# Altium footprint library MDV6-TEMP.PcbLib: 12 footprints
Each footprint in its own frame and in the unit in brackets; x right, y up, seen from the top. Pads: shape width x height; smd on the part's side, far side on the other; paste and mask are expansions set on the pad; w line width, h text height; cw(c..) or ccw(c..) is an arc to the next point about the centre after c.
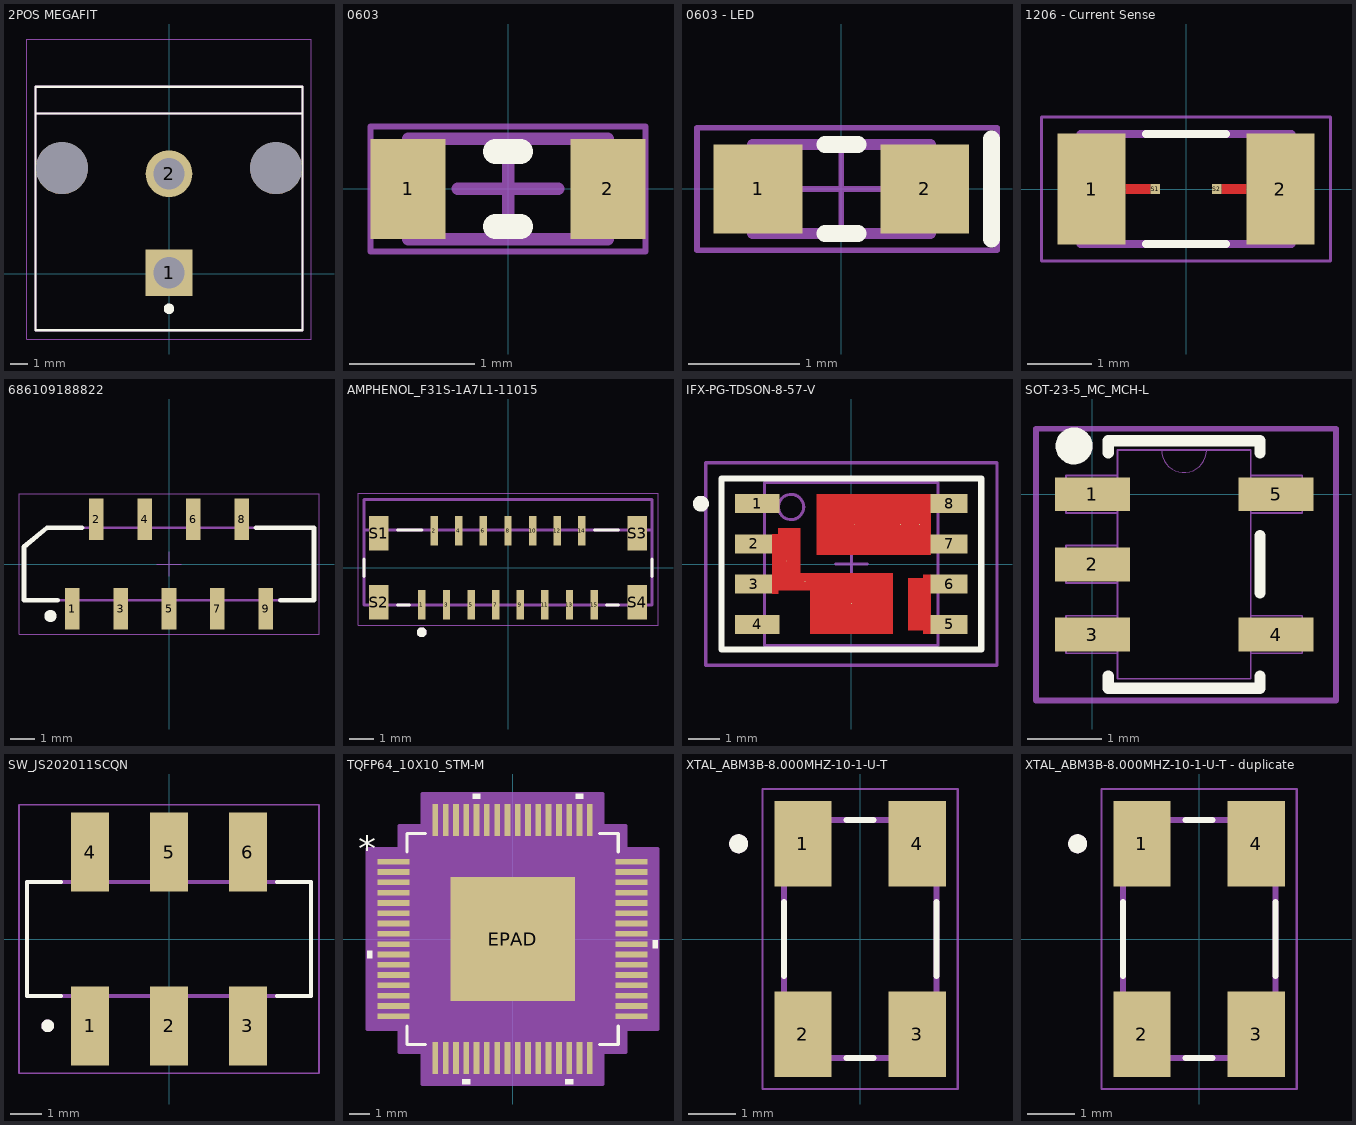
[diagram p0: the footprints below, top view; thin cyan lines are the x and y axes]

## 2POS MEGAFIT [mm] "2POS MOLEX MEGAFIT"
pads (4):
  rect 2.7x2.7 hole 1.8: 1(0,0.071)
  round 2.7 hole 1.8: 2(0,5.771)
  round 3 hole 3 unplated: ""(-6.17,6.096) ""(6.17,6.096)
Top Overlay:
  circle w0.3: c0,-2.004 r0.15
  lines w0.127: -7.695,9.241 7.695,9.241 ; -7.695,9.241 -7.695,-3.239 7.695,-3.239 7.695,9.241 ; -7.695,9.241 -7.695,10.791 7.695,10.791 7.695,9.241
Mechanical 13:
  lines w0.127: -7.695,9.241 7.695,9.241 ; -7.695,9.241 -7.695,-3.239 7.695,-3.239 7.695,9.241 ; -7.695,9.241 -7.695,10.791 7.695,10.791 7.695,9.241
Mechanical 15:
  lines w0.05: -8.2,-3.744 8.2,-3.744 8.2,13.536 -8.2,13.536 -8.2,-3.744
3D body "76829-0002--3DModel-STEP-361473.STEP": height 15.15, standoff -3.43, extent -7.696,-3.239 7.696,10.795

## 0603 [mm] "Chip Resistor, 2-Leads, Body 1.60x0.80mm, IPC High Density"
height 0.6
pads (2):
  rect 0.6x0.8 smd mask+0.1: 1(-0.8,0) 2(0.8,0)
Top Overlay:
  lines w0.2: -0.1,-0.3 0.1,-0.3 ; -0.1,0.3 0.1,0.3
Mechanical 13:
  lines w0.1: -0.8,-0.4 -0.8,0.4 0.8,0.4 0.8,-0.4 -0.8,-0.4
Mechanical 15:
  lines w0.05: -1.1,-0.5 -1.1,0.5 1.1,0.5 1.1,-0.5 -1.1,-0.5
  lines w0.1: -0.4,0 0.4,0 ; 0,-0.4 0,0.4
3D body: height 0.6, standoff 0, extent -0.6,-0.4 0.6,0.4
3D body: height 0.6, standoff 0, extent -0.8,-0.4 -0.6,0.4
3D body: height 0.6, standoff 0, extent 0.6,-0.4 0.8,0.4

## 0603 - LED [mm]
pads (2):
  rect 0.8x0.8 smd: 1(-0.75,0) 2(0.75,0)
Top Overlay:
  lines w0.152: -0.15,-0.4 0.15,-0.4 ; -0.15,0.4 0.15,0.4 ; 1.35,-0.45 1.35,0.45
Mechanical 13:
  lines w0.1: -0.8,-0.4 0.8,-0.4 0.8,0.4 -0.8,0.4 -0.8,-0.4
Mechanical 15:
  lines w0.05: -0.4,0 0.4,0 ; 0,-0.4 0,0.4 ; -1.3,-0.55 -1.3,0.55 1.4,0.55 1.4,-0.55 -1.3,-0.55
3D body "0603 - LED.STEP": height 0.65, standoff 0, extent -0.8,-0.4 0.8,0.4

## 1206 - Current Sense [mm]
pads (4):
  rect 1.05x1.72 smd: 1(-1.46,0) 2(1.46,0)
  rect 0.152x0.152 smd mask+0.102: S1(-0.476,0) S2(0.476,0)
Top Layer:
  rectangle: -0.935,-0.076 -0.552,0.076
  region: 0.935,0.076 0.552,0.076 0.552,-0.076 0.935,-0.076
Top Overlay:
  lines w0.127: -0.62,-0.85 0.62,-0.85 ; -0.62,0.85 0.62,0.85
Mechanical 13:
  lines w0.127: -1.63,-0.85 -1.63,0.85 1.63,0.85 1.63,-0.85 -1.63,-0.85
Mechanical 15:
  lines w0.05: -2.235,-1.112 -2.235,1.112 2.235,1.112 2.235,-1.112 -2.235,-1.112
3D body "1206.STEP": height 1.61, standoff 0.01, extent -1.6,-0.8 1.6,0.8

## 686109188822 [mm] "LIF Connectors, Vertical Type A,  pitch 1mm, 9p"
height 5.1
pads (9):
  rect 0.6x1.7 smd: 1(-4,-1.85) 2(-3,1.85) 3(-2,-1.85) 4(-1,1.85) 5(0,-1.85) 6(1,1.85) 7(2,-1.85) 8(3,1.85) 9(4,-1.85)
Top Overlay:
  circle w0.25: c-4.9,-2.15 r0.125
  lines w0.2: -4.6,-1.5 -6,-1.5 -6,0.7 -5.047,1.5 -3.6,1.5 ; 3.6,1.5 6,1.5 6,-1.5 4.6,-1.5
Top 3D Body:
  lines w0.1: -4.175,-1.5 -4.175,-2.2 -3.825,-2.2 -3.825,-1.5 ; -3.175,1.5 -3.175,2.2 -2.825,2.2 -2.825,1.5 ; -2.175,-1.5 -2.175,-2.2 -1.825,-2.2 -1.825,-1.5 ; -1.175,1.5 -1.175,2.2 -0.825,2.2 -0.825,1.5 ; -0.175,-1.5 -0.175,-2.2 0.175,-2.2 0.175,-1.5 ; 0.825,1.5 0.825,2.2 1.175,2.2 1.175,1.5 ; 1.825,-1.5 1.825,-2.2 2.175,-2.2 2.175,-1.5 ; 2.825,1.5 2.825,2.2 3.175,2.2 3.175,1.5 ; 3.825,-1.5 3.825,-2.2 4.175,-2.2 4.175,-1.5 ; -6,-1.5 6,-1.5 6,1.5 -5.047,1.5 -6,0.7 -6,-1.5
Top Courtyard:
  lines w0.05: -0.5,0 0.5,0 ; 0,-0.5 0,0.5 ; -6.2,-2.9 -6.2,2.9 6.2,2.9 6.2,-2.9 -6.2,-2.9
Top Designator:
  text ".Designator" at -5.974,3.691 h1.5
Top Component Outline:
  lines w0.1: -4.175,-1.5 -4.175,-2.2 -3.825,-2.2 -3.825,-1.5 ; -3.175,1.5 -3.175,2.2 -2.825,2.2 -2.825,1.5 ; -2.175,-1.5 -2.175,-2.2 -1.825,-2.2 -1.825,-1.5 ; -1.175,1.5 -1.175,2.2 -0.825,2.2 -0.825,1.5 ; -0.175,-1.5 -0.175,-2.2 0.175,-2.2 0.175,-1.5 ; 0.825,1.5 0.825,2.2 1.175,2.2 1.175,1.5 ; 1.825,-1.5 1.825,-2.2 2.175,-2.2 2.175,-1.5 ; 2.825,1.5 2.825,2.2 3.175,2.2 3.175,1.5 ; 3.825,-1.5 3.825,-2.2 4.175,-2.2 4.175,-1.5 ; -6,-1.5 -6,0.7 -5.047,1.5 6,1.5 6,-1.5 -6,-1.5
3D body "686109188822.stp": height 5.21, standoff 0.01, extent -6,-2.2 6,2.2

## AMPHENOL_F31S-1A7L1-11015 [mm]
height 5.8
pads (19):
  rect 0.3x1.2 smd: 1(-3.5,-1.5) 2(-3,1.5) 3(-2.5,-1.5) 4(-2,1.5) 5(-1.5,-1.5) 6(-1,1.5) 7(-0.5,-1.5) 8(0,1.5) 9(0.5,-1.5) 10(1,1.5) 11(1.5,-1.5) 12(2,1.5) 13(2.5,-1.5) 14(3,1.5) 15(3.5,-1.5)
  rect 0.8x1.4 smd: S1(-5.25,1.4) S2(-5.25,-1.4) S3(5.25,1.4) S4(5.25,-1.4)
Top Overlay:
  circle w0.2: c-3.51,-2.63 r0.1
  lines w0.127: -5.85,-0.35 -5.85,0.35 ; -4.5,-1.525 -4,-1.525 ; -4.5,1.525 -3.5,1.525 ; 3.53,1.525 4.5,1.525 ; 4,-1.525 4.5,-1.525 ; 5.85,-0.35 5.85,0.35
Mechanical 13:
  circle w0.2: c-3.51,-2.63 r0.1
  lines w0.127: -5.85,1.525 -5.85,2.775 5.85,2.775 5.85,1.525 ; -5.85,1.525 5.85,1.525 ; -5.85,1.525 -5.85,-1.525 5.85,-1.525 5.85,1.525
Mechanical 15:
  lines w0.05: -6.1,-2.35 -6.1,3.025 6.1,3.025 6.1,-2.35 -6.1,-2.35
3D body "step_temp.STEP": height 5.81, standoff 0, extent -5.85,-3.203 5.85,1.778

## IFX-PG-TDSON-8-57-V [mm] "TDSON 8, 1.27mm pitch; 8 pin, 5.48 mm L X 5.15 mm W X 1 mm H body"
height 1
pads (15):
  rect 1.4x0.6 smd paste-0.3 mask+0: 1(-2.97,1.905) 4(-2.97,-1.905)
  rect 1.17x0.6 smd paste-0.3 mask+0: 2(-3.085,0.635) 3(-3.085,-0.635) 5(3.085,-1.905) 6(3.085,-0.635) 7(3.085,0.635) 8(3.085,1.905)
  round 0.025 smd: 2,3(-2.055,0.095) 2,3(-1.46,-0.555) 2,3(0,-1.245) 5,6(2.15,-1.27) 7,8(0.105,1.252) 7,8(1.55,1.252) 7,8(2.15,1.252)
Top Layer:
  region: -1.09,2.205 -1.09,0.3 1.3,0.3 1.3,2.205
  region: 1.3,2.205 1.3,0.3 1.8,0.3 1.8,2.205
  region: 2.5,-2.205 2.27,-2.205 2.27,-2.095 1.8,-2.095 1.8,-0.445 2.27,-0.445 2.27,-0.335 2.5,-0.335
  region: -1.651,-0.825 -1.27,-0.825 -1.27,-0.285 -1.651,-0.285
  region: -1.3,-2.205 -1.3,-0.285 1.3,-0.285 1.3,-2.205
  region: -2.5,-0.935 -2.31,-0.935 -2.31,-0.825 -1.61,-0.825 -1.61,1.125 -2.31,1.125 -2.31,0.935 -2.5,0.935
  region: 1.8,2.205 1.8,0.3 2.5,0.3 2.5,2.205
Top Overlay:
  circle w0.25: c-4.75,1.905 r0.125
  lines w0.2: -4.1,-2.7 4.1,-2.7 4.1,2.7 -4.1,2.7 -4.1,-2.7
Top Paste:
  region: 0.115,-1.815 0.865,-1.815 0.865,-0.665 0.115,-0.665
  region: -2.26,-0.635 -2.26,0.935 -1.66,0.935 -1.66,-0.635
  region: -0.885,-1.815 -0.135,-1.815 -0.135,-0.665 -0.885,-0.665
  region: 2.47,2.155 2.47,1.655 3.62,1.655 3.62,2.155
  region: 2.47,0.885 2.47,0.385 3.62,0.385 3.62,0.885
  region: 2.47,-1.655 2.47,-2.155 3.62,-2.155 3.62,-1.655
  region: 2.47,-0.385 2.47,-0.885 3.62,-0.885 3.62,-0.385
  region: -3.62,-0.385 -3.62,-0.885 -2.47,-0.885 -2.47,-0.385
  region: -3.62,-1.655 -3.62,-2.155 -2.47,-2.155 -2.47,-1.655
  region: -3.62,0.885 -3.62,0.385 -2.47,0.385 -2.47,0.885
  region: -3.62,2.155 -3.62,1.655 -2.47,1.655 -2.47,2.155
  region: 2.27,-1.605 1.85,-1.605 1.85,-0.935 2.27,-0.935
  region: -0.03,0.72 -0.03,1.77 -0.78,1.77 -0.78,0.72
  region: 0.97,0.72 0.97,1.77 0.22,1.77 0.22,0.72
  region: 2.25,0.81 2.25,1.68 1.85,1.68 1.85,0.81
Top Courtyard:
  text ".DESIGNATOR" at 0,0 h1.2
Mechanical 13:
  circle w0.1: c-1.905,1.8 r0.4
  lines w0.1: -2.74,-2.575 2.74,-2.575 2.74,2.575 -2.74,2.575 -2.74,-2.575
Mechanical 15:
  lines w0.1: -0.5,0 0.5,0 ; 0,-0.5 0,0.5 ; -4.6,-3.2 4.6,-3.2 4.6,3.2 -4.6,3.2 -4.6,-3.2
3D body "PG-TDSON-8-57_Z8B00191012_V02_3D.stp": height 1.01, standoff 0, extent -3.22,-2.705 3.22,2.705

## SOT-23-5_MC_MCH-L [mil]
pads (5):
  rect 40x18 smd: 1(0,0) 2(0,-37.4) 3(0,-74.8) 4(98,-74.8) 5(98,0)
Top Overlay:
  circle w9.84: c-9.72,25.77 r4.92
  lines w6: 8.5,-96.9 8.5,-103.4 89.5,-103.4 89.5,-96.9 ; 8.5,22.1 8.5,28.6 89.5,28.6 89.5,22.1 ; 89.5,-52.7 89.5,-22.1
Mechanical 13:
  lines w0: 37,23.6 ccw(c49,23.6) 61,23.6
  lines w1: -14,-84.8 13.5,-84.8 13.5,-64.8 -14,-64.8 -14,-84.8 ; -14,-47.4 13.5,-47.4 13.5,-27.4 -14,-27.4 -14,-47.4 ; -14,-10 13.5,-10 13.5,10 -14,10 -14,-10 ; 13.5,-98.4 13.5,23.6 84.5,23.6 84.5,-98.4 13.5,-98.4 ; 84.5,-84.8 112,-84.8 112,-64.8 84.5,-64.8 84.5,-84.8 ; 84.5,-10 112,-10 112,10 84.5,10 84.5,-10
Mechanical 15:
  lines w3: -30,-110 130,-110 130,35 -30,35 -30,-110
3D body "SOT-23-5_MC_MCH.step": height 57.09, standoff 0, extent -13.99,-98.39 111.99,23.58

## SW_JS202011SCQN [mm]
pads (6):
  rect 1.2x2.5 smd: 1(-2.5,-2.75) 2(0,-2.75) 3(2.5,-2.75) 4(-2.5,2.75) 5(0,2.75) 6(2.5,2.75)
Top Overlay:
  circle w0.2: c-3.84,-2.75 r0.1
  lines w0.127: -3.42,-1.8 -4.5,-1.8 -4.5,1.8 -3.42,1.8 ; 3.42,-1.8 4.5,-1.8 4.5,1.8 3.42,1.8
Mechanical 13:
  circle w0.2: c-3.84,-2.75 r0.1
  lines w0.127: -4.5,-1.8 -4.5,1.8 4.5,1.8 4.5,-1.8 -4.5,-1.8
Mechanical 15:
  lines w0.05: -4.75,-4.25 4.75,-4.25 4.75,4.25 -4.75,4.25 -4.75,-4.25
3D body "JS202011SCQN--3DModel-STEP-269445.STEP": height 5.51, standoff 0, extent -4.496,-3.747 4.496,3.747

## TQFP64_10X10_STM-M [mil]
pads (65):
  rect 61x11 smd paste+0 mask+0: 1(-227.5,147.64) 2(-227.5,127.95) 3(-227.5,108.27) 4(-227.5,88.58) 5(-227.5,68.9) 6(-227.5,49.21) 7(-227.5,29.53) 8(-227.5,9.84) 9(-227.5,-9.84) 10(-227.5,-29.53) 11(-227.5,-49.21) 12(-227.5,-68.9) 13(-227.5,-88.58) 14(-227.5,-108.27) 15(-227.5,-127.95) 16(-227.5,-147.64) 33(227.5,-147.64) 34(227.5,-127.95) 35(227.5,-108.27) 36(227.5,-88.58) 37(227.5,-68.9) 38(227.5,-49.21) 39(227.5,-29.53) 40(227.5,-9.84) 41(227.5,9.84) 42(227.5,29.53) 43(227.5,49.21) 44(227.5,68.9) 45(227.5,88.58) 46(227.5,108.27) 47(227.5,127.95) 48(227.5,147.64)
  rect 11x61 smd paste+0 mask+0: 17(-147.64,-227.5) 18(-127.95,-227.5) 19(-108.27,-227.5) 20(-88.58,-227.5) 21(-68.9,-227.5) 22(-49.21,-227.5) 23(-29.53,-227.5) 24(-9.84,-227.5) 25(9.84,-227.5) 26(29.53,-227.5) 27(49.21,-227.5) 28(68.9,-227.5) 29(88.58,-227.5) 30(108.27,-227.5) 31(127.95,-227.5) 32(147.64,-227.5) 49(147.64,227.5) 50(127.95,227.5) 51(108.27,227.5) 52(88.58,227.5) 53(68.9,227.5) 54(49.21,227.5) 55(29.53,227.5) 56(9.84,227.5) 57(-9.84,227.5) 58(-29.53,227.5) 59(-49.21,227.5) 60(-68.9,227.5) 61(-88.58,227.5) 62(-108.27,227.5) 63(-127.95,227.5) 64(-147.64,227.5)
  rect 238x238 smd paste-118.5 mask+0: EPAD(0,0)
Top Overlay:
  region: -61.4,268 -76.4,268 -76.4,278 -61.4,278
  region: 135.45,268 120.45,268 120.45,278 135.45,278
  region: 268,-2.34 278,-2.34 278,-17.34 268,-17.34
  region: 115.77,-268 100.77,-268 100.77,-278 115.77,-278
  region: -81.08,-268 -96.08,-268 -96.08,-278 -81.08,-278
  region: -268,-22.03 -278,-22.03 -278,-37.03 -268,-37.03
  lines w6: -202,-166.24 -202,-202 -166.24,-202 ; -202,166.24 -202,202 -166.24,202 ; 166.24,-202 202,-202 202,-166.24 ; 166.24,202 202,202 202,166.24
  text "*" at -295.5,147.48 h50
Top Paste:
  region: 115.06,-63.44 63.44,-63.44 63.44,-115.06 115.06,-115.06
  region: 115.06,-3.94 63.44,-3.94 63.44,-55.56 115.06,-55.56
  region: 115.06,55.56 63.44,55.56 63.44,3.94 115.06,3.94
  region: 115.06,115.06 63.44,115.06 63.44,63.44 115.06,63.44
  region: 55.56,-63.44 3.94,-63.44 3.94,-115.06 55.56,-115.06
  region: 55.56,-3.94 3.94,-3.94 3.94,-55.56 55.56,-55.56
  region: 55.56,55.56 3.94,55.56 3.94,3.94 55.56,3.94
  region: 55.56,115.06 3.94,115.06 3.94,63.44 55.56,63.44
  region: -3.94,-63.44 -55.56,-63.44 -55.56,-115.06 -3.94,-115.06
  region: -3.94,-3.94 -55.56,-3.94 -55.56,-55.56 -3.94,-55.56
  region: -3.94,55.56 -55.56,55.56 -55.56,3.94 -3.94,3.94
  region: -3.94,115.06 -55.56,115.06 -55.56,63.44 -3.94,63.44
  region: -63.44,-63.44 -115.06,-63.44 -115.06,-115.06 -63.44,-115.06
  region: -63.44,-3.94 -115.06,-3.94 -115.06,-55.56 -63.44,-55.56
  region: -63.44,55.56 -115.06,55.56 -115.06,3.94 -63.44,3.94
  region: -63.44,115.06 -115.06,115.06 -115.06,63.44 -63.44,63.44
Mechanical 13:
  drawing of 261 lines, arcs and shapes, not listed
  text "*" at -194.5,132.48 h50
Mechanical 15:
  region: -173.14,-217 -217,-217 -217,-173.14 -278,-173.14 -278,173.14 -217,173.14 -217,217 -173.14,217 -173.14,278 173.14,278 173.14,217 217,217 217,173.14 278,173.14 278,-173.14 217,-173.14 217,-217 173.14,-217 173.14,-278 -173.14,-278
  lines w6: -278,-173.14 -278,173.14 -217,173.14 -217,217 -173.14,217 -173.14,278 173.14,278 173.14,217 217,217 217,173.14 278,173.14 278,-173.14 217,-173.14 217,-217 173.14,-217 173.14,-278 -173.14,-278 -173.14,-217 -217,-217 -217,-173.14 -278,-173.14
3D body "TQFP64_10X10_STM.step": height 47.09, standoff 0, extent -235.98,-235.98 235.98,235.98

## XTAL_ABM3B-8.000MHZ-10-1-U-T [mm]
height 1.1
pads (4):
  rect 1.2x1.8 smd: 1(-1.2,2) 2(-1.2,-2) 3(1.2,-2) 4(1.2,2)
Top Overlay:
  circle w0.2: c-2.55,2 r0.1
  lines w0.127: -1.6,-0.78 -1.6,0.78 ; -0.28,-2.5 0.28,-2.5 ; -0.28,2.5 0.28,2.5 ; 1.6,-0.78 1.6,0.78
Mechanical 13:
  circle w0.2: c-2.55,2 r0.1
  lines w0.127: -1.6,-2.5 1.6,-2.5 1.6,2.5 -1.6,2.5 -1.6,-2.5
Mechanical 15:
  lines w0.05: -2.05,-3.15 2.05,-3.15 2.05,3.15 -2.05,3.15 -2.05,-3.15
3D body "step_temp.STEP": height 1.1, standoff -0.01, extent -1.587,-2.5 1.587,2.5

## XTAL_ABM3B-8.000MHZ-10-1-U-T - duplicate [mm]
height 1.1
pads (4):
  rect 1.2x1.8 smd: 1(-1.2,2) 2(-1.2,-2) 3(1.2,-2) 4(1.2,2)
Top Overlay:
  circle w0.2: c-2.55,2 r0.1
  lines w0.127: -1.6,-0.78 -1.6,0.78 ; -0.28,-2.5 0.28,-2.5 ; -0.28,2.5 0.28,2.5 ; 1.6,-0.78 1.6,0.78
Mechanical 13:
  circle w0.2: c-2.55,2 r0.1
  lines w0.127: -1.6,-2.5 1.6,-2.5 1.6,2.5 -1.6,2.5 -1.6,-2.5
Mechanical 15:
  lines w0.05: -2.05,-3.15 2.05,-3.15 2.05,3.15 -2.05,3.15 -2.05,-3.15
3D body "step_temp.STEP": height 1.1, standoff -0.01, extent -1.587,-2.5 1.587,2.5